# EAGLE library part IC-AD597 (library Namenlos)
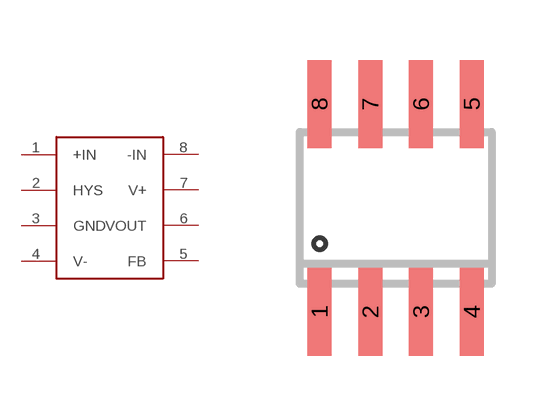
[diagram p10: symbol with the pads of SO8; footprint SO8]

Designator prefix -

## IC-AD597ARZ  [SO8]
1  +IN
2  HYS
3  GND
4  V-
5  FB
6  VOUT
7  V+
8  -IN

## Footprint SO8 (pad centres in mm)
smd 0.6 x 2.2: 1 -1.905,-2.6; 2 -0.635,-2.6; 3 0.635,-2.6; 4 1.905,-2.6; 5 1.905,2.6; 6 0.635,2.6; 7 -0.635,2.6; 8 -1.905,2.6